# EAGLE library part ESHF-110-01-L-D-TH_ESHF-110-01-L-D-TH (library xmos_avb_brd_V4)
.050" Shrouded Terminal Strip For FFSD, through hole, dual row, 10 positions per row Source: Datasheet <http://suddendocs.samtec.com/prints/shf-1xx-01-x-d-xx-xx-mkt.pdf>
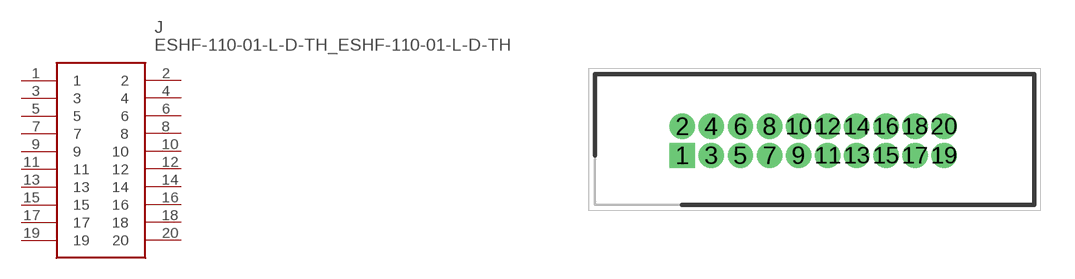
[diagram p0: symbol with the pads of ESHF-110-01-L-D-TH_SHDR20W41P127_2X10_1905X559X54; footprint ESHF-110-01-L-D-TH_SHDR20W41P127_2X10_1905X559X54]

Designator prefix J

## ESHF-110-01-L-D-TH_ESHF-110-01-L-D-TH (DESCRIPTION: .050" Shrouded Terminal Strip For FFSD, through hole, dual row, 10 positions per row; HEIGHT: 5.46mm; MANUFACTURER_NAME: SAMTEC; MANUFACTURER_PART_NUMBER: ESHF-110-01-L-D-TH; MOUSER_PART_NUMBER: 200-ESHF11001LDTH; MOUSER_PRICE-STOCK: https://www.mouser.co.uk/ProductDetail/Samtec/ESHF-110-01-L-D-TH?qs=PB6%2FjmICvI0mxf%2Fbo3P5fg%3D%3D)  [ESHF-110-01-L-D-TH_SHDR20W41P127_2X10_1905X559X54]
1  1
2  2
3  3
4  4
5  5
6  6
7  7
8  8
9  9
10  10
11  11
12  12
13  13
14  14
15  15
16  16
17  17
18  18
19  19
20  20

## Footprint ESHF-110-01-L-D-TH_SHDR20W41P127_2X10_1905X559X54 (pad centres in mm)
ESHF-110-01-L-D-TH
drill 0.6 pad 1 square: 1 0,0
drill 0.6 pad 1: 2 0,1.27; 3 1.27,0; 4 1.27,1.27; 5 2.54,0; 6 2.54,1.27; 7 3.81,0; 8 3.81,1.27; 9 5.08,0; 10 5.08,1.27; 11 6.35,0; 12 6.35,1.27; 13 7.62,0; 14 7.62,1.27; 15 8.89,0; 16 8.89,1.27; 17 10.16,0; 18 10.16,1.27; 19 11.43,0; 20 11.43,1.27